# Altium integrated library Integrated_Library1.IntLib: 47 symbols
Pins are listed as number, name and electrical type; pins without a type are passive.

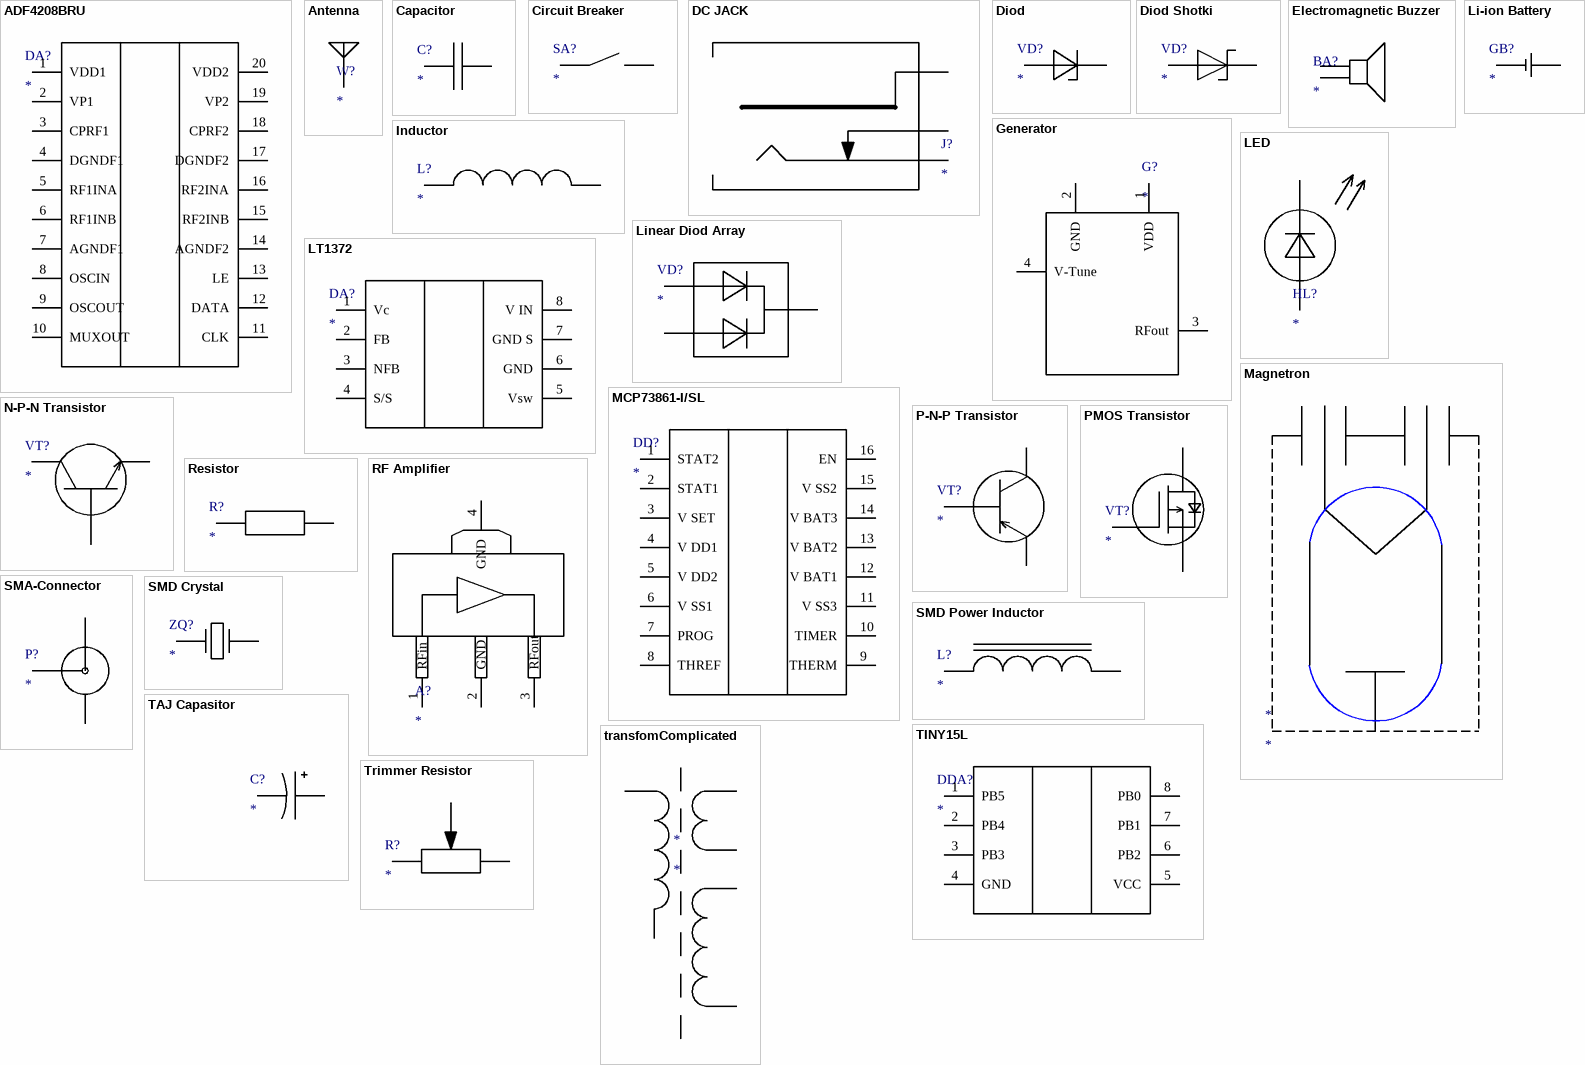
[diagram p0: symbols ADF4208BRU to Trimmer Resistor]

## ADF4208BRU
designator DA?
footprint TSOP-20 (TSOP, 20-Leads, Body 6,50x4,40mm, Pitch 0,65mm, IPC Medium Density)
pins: 1 VDD1 (power), 2 VP1, 3 CPRF1, 4 DGNDF1 (power), 5 RF1INA, 6 RF1INB, 7 AGNDF1 (power), 8 OSCIN, 9 OSCOUT, 10 MUXOUT, 11 CLK, 12 DATA, 13 LE, 14 AGNDF2 (power), 15 RF2INB, 16 RF2INA, 17 DGNDF2 (power), 18 CPRF2, 19 VP2, 20 VDD2 (power)

## Antenna
designator W?
footprint BW1575-1576 (Antenna)
pins: 1 A

## Capacitor
designator C?
footprint 12065C105KAT2A (Ceramic Capasitor X7R 10% 50V 1206 -AVX)
footprint C0603C471J5RACTU (Ceramic Capasitor X7R 5% 50V 0603 -Kemet)
footprint CC0603BRNPO9BN_ (Ceramic Capasitor C0G(NP0) ±0.1pF 50V -Yageo)
footprint CC0603KRX7R9BB102(3) (Ceramic Capasitor X7R 10% 50V nF 0603 -Yageo)
footprint CC0603KRX7R9BB101 (Ceramic Capasitor X7R 10% 50V pF 0603 -Yageo)
footprint 0603YD105KAT2S (Ceramic Capasitor X5R 10% 16V 0603 -AVX)
footprint CBR02C108B3GAC (Ceramic Capasitor X7R 10% 25V 0603 -Kemet)
footprint 06035U100JAT2A (Ceramic Capasitor C0G(NP0) 5% 50V 0603 -AVX)
footprint CC0603JRNPO9BN220 (Ceramic Capasitor C0G(NP0) 5% 50V 0603 -Yageo)
pins: 1, 2

## Circuit Breaker
designator SA?
footprint Circuit Breaker (Breaker)
pins: 1, 2

## DC JACK
designator J?
footprint PJ-067B (DC ADAPTER)
pins: 1, 2, 3

## Diod
designator VD?
footprint SM-1
footprint SOT23-3 (VD  BZX84-C5V1)
pins: 1, 2

## Diod Shotki
designator VD?
footprint SS14 (Diod Shotke)
pins: 1, 2

## Electromagnetic Buzzer
designator BA?
footprint LET9032BS-03L-2.7-16-R (Electromagnetic Buzzer)
pins: 1, 2

## Generator
designator G?
footprint MODCO CM464
pins: 1 VDD (power), 2 GND (power), 3 RFout, 4 V-Tune

## Inductor
designator L?
footprint HK1608-18NJ-T (High Freq Chip Inductor L0603 -Taiyo)
footprint LL1608-FH5N6S (Fixed Inductor 5.6nH L0603 -Toko)
pins: 1, 2

## LED
designator HL?
footprint SML-LX23SUGC-TR (LED)
pins: 1, 2

## Li-ion Battery
designator GB?
footprint Li-Ion Battery (Battery)
pins: 1, 2

## Linear Diod Array
designator VD?
footprint BAV70 (Diod Array)
pins: 1, 2, 3

## LT1372
designator DA?
footprint SO-8 (SOIC, 8-Leads, Body 4,90x3,90mm, Pitch 1,27mm, IPC Medium Density)
pins: 1 Vc (power), 2 FB, 3 NFB, 4 S/S, 5 Vsw (power), 6 GND (power), 7 GND S (power), 8 V IN (power)

## Magnetron
designator *
pins: 5, 6

## MCP73861-I/SL
designator DD?
footprint SOIC-16 (SOIC, 16-Leads, Body 9,91x3,90mm, Pitch 1,27mm, IPC Medium Density)
pins: 1 STAT2, 2 STAT1, 3 V SET, 4 V DD1 (power), 5 V DD2 (power), 6 V SS1 (power), 7 PROG, 8 THREF, 9 THERM, 10 TIMER, 11 V SS3, 12 V BAT1, 13 V BAT2, 14 V BAT3, 15 V SS2 (power), 16 EN

## N-P-N Transistor
designator VT?
footprint BFG540 (N-P-N Transistor)
pins: 1, 2, 3

## P-N-P Transistor
designator VT?
footprint TRANSISTOR (KT315)
pins: 1, 2, 3

## PMOS Transistor
designator VT?
footprint IRLML6402 (PMOS Transistor)
pins: 1, 2, 3

## Resistor
designator R?
footprint RES0603
footprint RES0805
footprint RES1206
pins: 1, 2

## RF Amplifier
designator A?
footprint SOT-89 (RF Amplifier AG604-89)
pins: 1 RFin , 2 GND (power), 3 RFout, 4 GND (power)

## SMA-Connector
designator P?
footprint SM-P2152NW (SMA-Connector)
pins: 1, 1, 2

## SMD Crystal
designator ZQ?
footprint ECS-40-20-4X (SMD Crystal 4MHz 30ppm)
pins: 1, 2

## SMD Power Inductor
designator L?
footprint ASPI-0402T-100M
pins: 1, 2

## TAJ Capasitor
designator C?
footprint TAJ-A (Capasitor TAJ)
footprint TAJ-D (Capasitor TAJ)
pins: 1, 2

## TINY15L
designator DDA?
footprint SOIC-8 (SOIC, 8-Leads, Body 5,27x5,31mm, Pitch 1,27mm, IPC Medium Density)
pins: 1 PB5, 2 PB4, 3 PB3, 4 GND (power), 5 VCC (power), 6 PB2, 7 PB1, 8 PB0

## transfomComplicated
designator *
footprint TRF_6 (Transformer; 6 Leads)
pins: 1, 2, 3, 4, 5, 6

## Trimmer Resistor
designator R?
footprint resistor changable (Trimmer Resistor -Murata)
pins: 1, 2, 3


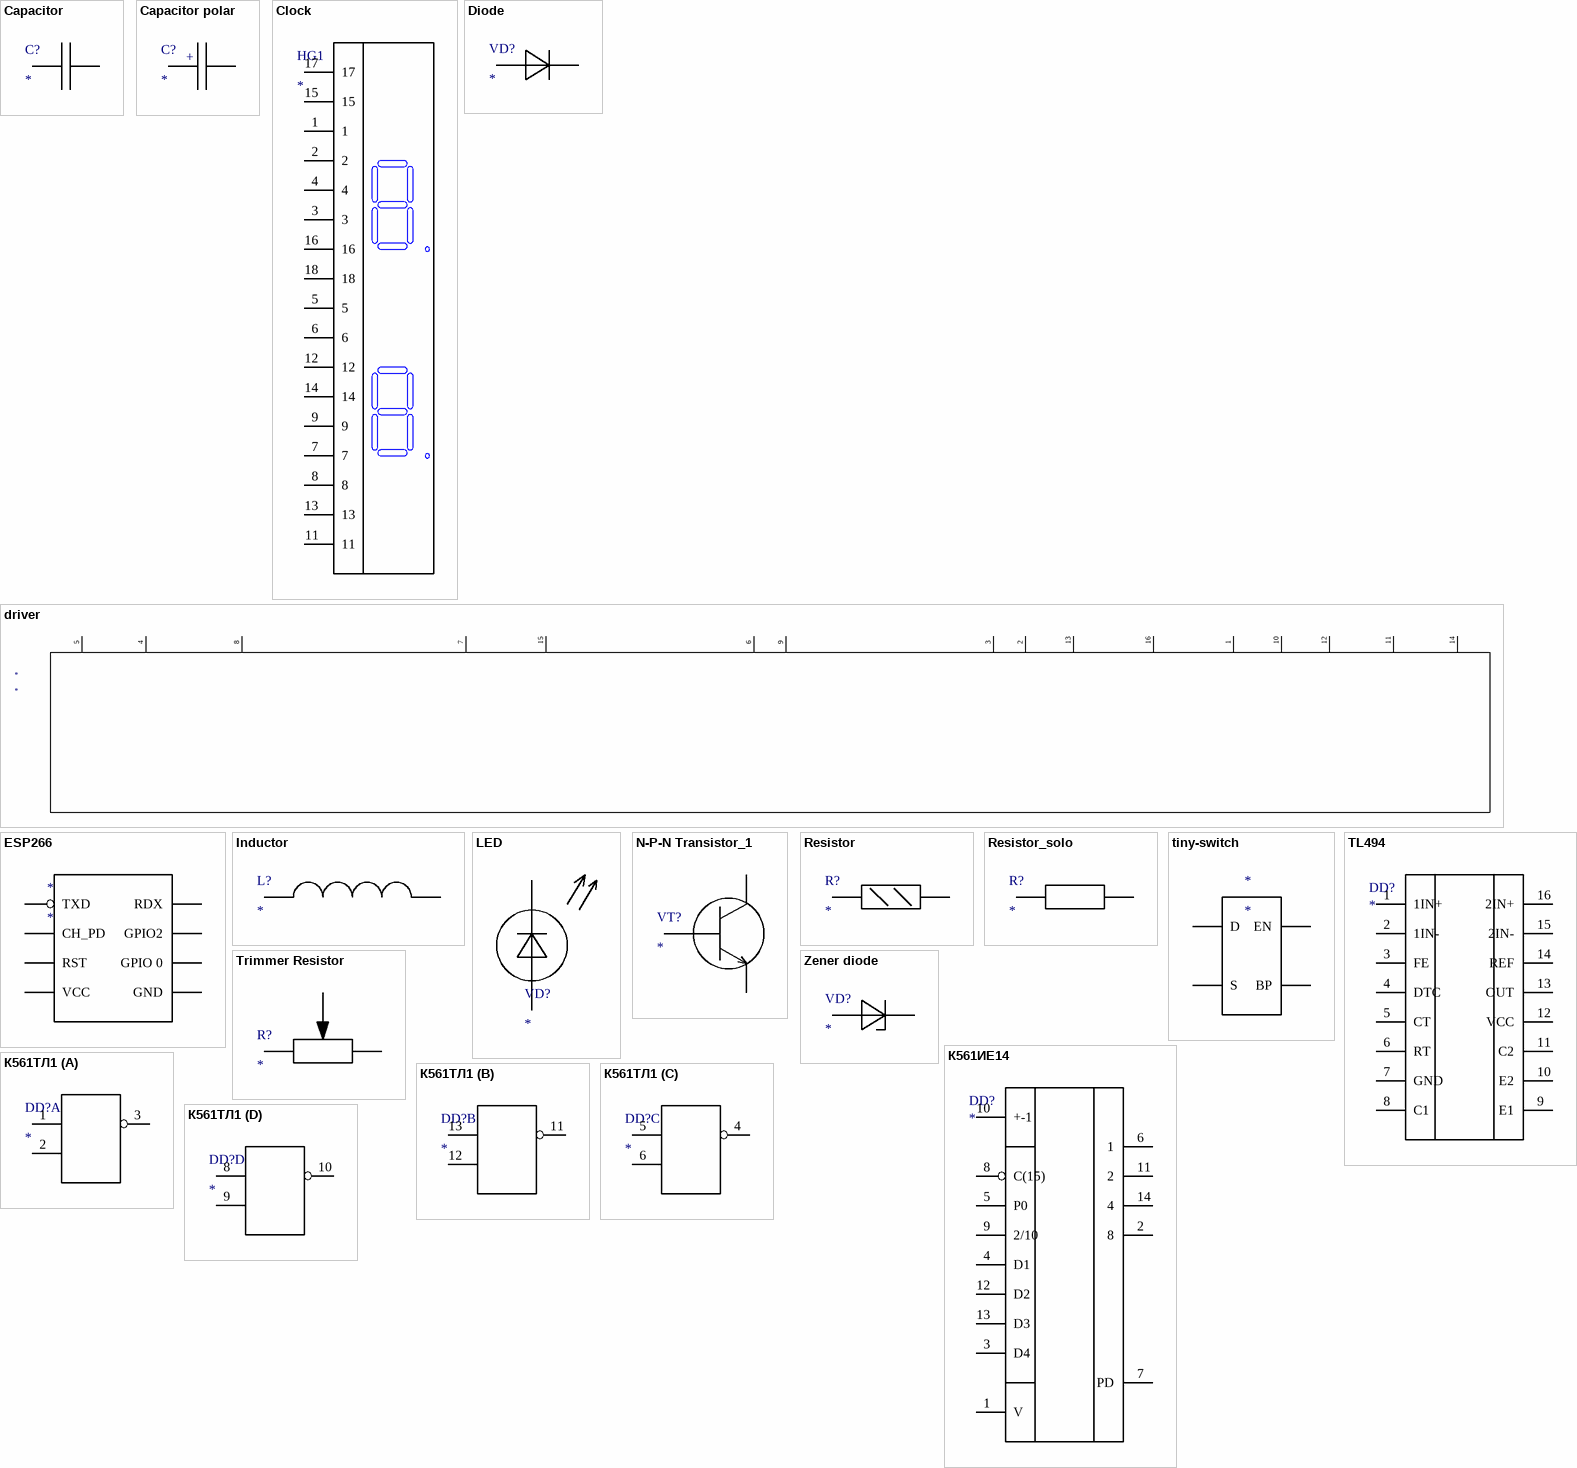
[diagram p1: symbols Capacitor to К561ТЛ1]

## Capacitor
designator C?
footprint capasitor (common)
pins: 1, 2

## Capacitor polar
designator C?
footprint capasitor (common)
pins: 1, 2
text: +

## Clock
designator HG1
footprint Clock (DA08-11GWA)
pins: 1, 2, 3, 4, 5 (power) "VCC", 6, 7, 8, 9, 11, 12, 13, 14, 15, 16, 17, 18

## Diode
designator VD?
footprint zener dioide (КС162А)
pins: 1, 2

## driver
designator *
footprint DIP16
pins: 1, 2, 3, 4, 5, 6, 7, 8, 9, 10, 11, 12, 13, 14, 15, 16 (power) "GND"

## ESP266
designator *
footprint DIP8
pins: 1 VCC (power), 2 RST, 3 CH_PD, 4 TXD, 5 GND (power), 6 GPIO 0, 7 GPIO2, 8 RDX

## Inductor
designator L?
footprint Inductor (*)
pins: 1, 2

## LED
designator VD?
footprint ALL LEDS (LED)
pins: 1, 2

## N-P-N Transistor_1
designator VT?
footprint TRANSISTOR (KT315)
pins: 1, 2, 3

## Resistor
designator R?
footprint RESISTOR
pins: 1, 2

## Resistor_solo
designator R?
footprint RESISTOR
pins: 1, 2

## tiny-switch
designator *
footprint DIP4
pins: 1 D, 2 EN, 3 BP, 4 S

## TL494
designator DD?
footprint DIP16
pins: 1 1IN+, 2 1IN-, 3 FE, 4 DTC, 5 CT "streaght dynamic", 6 RT "streaght dynamic", 7 GND (power), 8 C1, 9 E1, 10 E2, 11 C2, 12 VCC (power), 13 OUT, 14 REF, 15 2IN-, 16 2IN+

## Trimmer Resistor
designator R?
footprint resistor changable (Trimmer Resistor -Murata)
pins: 1, 2, 3

## Zener diode
designator VD?
footprint zener dioide (КС162А)
pins: 1, 2

## К561ИЕ14
designator DD?
footprint DIP14
pins: 1 V, 2 8, 3 D4, 4 D1, 5 P0, 6 1, 7 PD (power) "GND", 8 C(15) "streaght dynamic", 9 2/10, 10 +-1, 11 2, 12 D2, 13 D3, 14 4 (power) "VCC"

## К561ТЛ1
designator DD?
footprint DIP14
pins on every part: 7 (power) hidden to GND, 14 (power) hidden to VCC
part A pins: 1, 2, 3
part B pins: 11, 12, 13
part C pins: 4, 5, 6
part D pins: 8, 9, 10

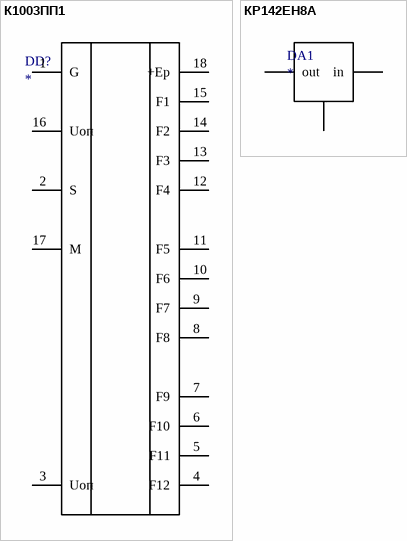
[diagram p2: symbols К1003ПП1 to КP142ЕН8А]

## К1003ПП1
designator DD?
footprint DIP18
pins: 1 G (power) "GND", 2 S, 3 Uоп, 4 F12, 5 F11, 6 F10, 7 F9, 8 F8, 9 F7, 10 F6, 11 F5, 12 F4, 13 F3, 14 F2, 15 F1, 16 Uоп, 17 M, 18 +Ep (power) "VCC"

## КP142ЕН8А
designator DA1
footprint D2PAK_N (D2-PAK, 4-Leads, Body 8.8x10.4mm, Pitch 2.54mm, Lead Span 15.1mm, IPC Medium Density)
pins: 1 out (power) "VCC", 2 in, 3 GND (power)